# EAGLE library part ICSP_HEADER (library thomas_library)
This is a connector for the PICkit 2 ICSP
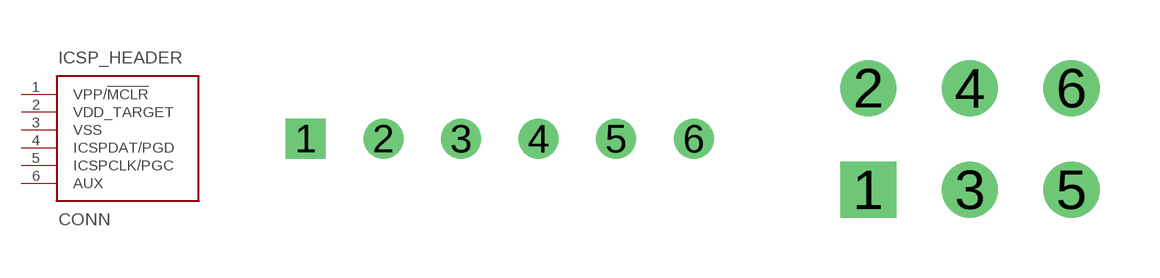
[diagram p19: symbol with the pads of ICSP_HEADER; footprints ICSP_HEADER, ISP_HEADER]

Designator prefix CONN

## ICSP_HEADER_PICKIT  [ICSP_HEADER]
1  VPP/!MCLR!
2  VDD_TARGET
3  VSS
4  ICSPDAT/PGD
5  ICSPCLK/PGC
6  AUX

## ICSP_HEADER_2X6  [ISP_HEADER]
1  VPP/!MCLR!
2  VDD_TARGET
3  ICSPDAT/PGD
4  VSS
5  ICSPCLK/PGC
6  AUX

## Footprint ICSP_HEADER (pad centres in mm)
This is an ICSP header for PIC programming. Validated 7/30/2013.
drill 0.8 square: 1 -5.08,0
drill 0.8: 2 -2.54,0; 3 0,0; 4 2.54,0; 5 5.08,0; 6 7.62,0

## Footprint ISP_HEADER (pad centres in mm)
drill 0.9 square: 1 -2.54,-1.27
drill 0.9: 2 -2.54,1.27; 3 0,-1.27; 4 0,1.27; 5 2.54,-1.27; 6 2.54,1.27